# EAGLE library part SN65LVDS387 (library lvds)
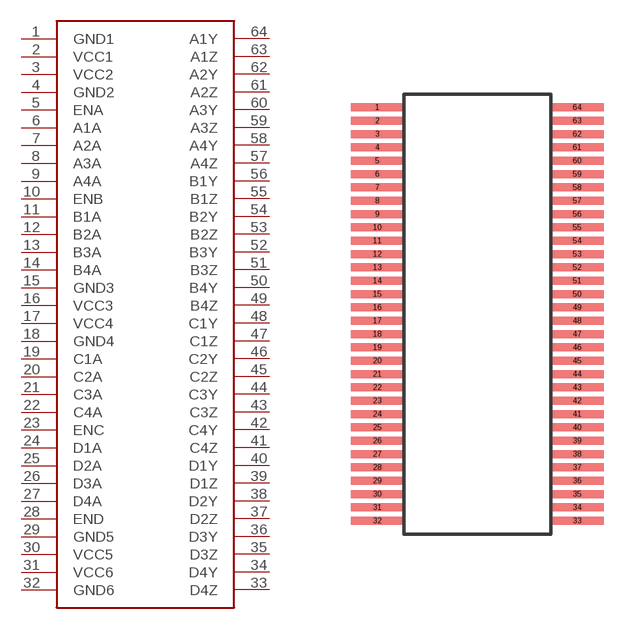
[diagram p1: symbol with the pads of DGG-64; footprint DGG-64]

Designator prefix -

## SN65LVDS387  [DGG-64]
1  GND1  pwr
2  VCC1  pwr
3  VCC2  pwr
4  GND2  pwr
5  ENA
6  A1A  in
7  A2A  in
8  A3A  in
9  A4A  in
10  ENB
11  B1A  in
12  B2A  in
13  B3A  in
14  B4A  in
15  GND3  pwr
16  VCC3  pwr
17  VCC4  pwr
18  GND4  pwr
19  C1A  in
20  C2A  in
21  C3A  in
22  C4A  in
23  ENC
24  D1A  in
25  D2A  in
26  D3A  in
27  D4A  in
28  END
29  GND5  pwr
30  VCC5  pwr
31  VCC6  pwr
32  GND6  pwr
33  D4Z  out
34  D4Y  out
35  D3Z  out
36  D3Y  out
37  D2Z  out
38  D2Y  out
39  D1Z  out
40  D1Y  out
41  C4Z  out
42  C4Y  out
43  C3Z  out
44  C3Y  out
45  C2Z  out
46  C2Y  out
47  C1Z  out
48  C1Y  out
49  B4Z  out
50  B4Y  out
51  B3Z  out
52  B3Y  out
53  B2Z  out
54  B2Y  out
55  B1Z  out
56  B1Y  out
57  A4Z  out
58  A4Y  out
59  A3Z  out
60  A3Y  out
61  A2Z  out
62  A2Y  out
63  A1Z  out
64  A1Y  out

## Footprint DGG-64 (pad centres in mm)
smd 2 x 0.3: 1 1,0; 2 1,-0.5; 3 1,-1; 4 1,-1.5; 5 1,-2; 6 1,-2.5; 7 1,-3; 8 1,-3.5; 9 1,-4; 10 1,-4.5; 11 1,-5; 12 1,-5.5; 13 1,-6; 14 1,-6.5; 15 1,-7; 16 1,-7.5; 17 1,-8; 18 1,-8.5; 19 1,-9; 20 1,-9.5; 21 1,-10; 22 1,-10.5; 23 1,-11; 24 1,-11.5; 25 1,-12; 26 1,-12.5; 27 1,-13; 28 1,-13.5; 29 1,-14; 30 1,-14.5; 31 1,-15; 32 1,-15.5; 33 8.5,-15.5; 34 8.5,-15; 35 8.5,-14.5; 36 8.5,-14; 37 8.5,-13.5; 38 8.5,-13; 39 8.5,-12.5; 40 8.5,-12; 41 8.5,-11.5; 42 8.5,-11; 43 8.5,-10.5; 44 8.5,-10; 45 8.5,-9.5; 46 8.5,-9; 47 8.5,-8.5; 48 8.5,-8; 49 8.5,-7.5; 50 8.5,-7; 51 8.5,-6.5; 52 8.5,-6; 53 8.5,-5.5; 54 8.5,-5; 55 8.5,-4.5; 56 8.5,-4; 57 8.5,-3.5; 58 8.5,-3; 59 8.5,-2.5; 60 8.5,-2; 61 8.5,-1.5; 62 8.5,-1; 63 8.5,-0.5; 64 8.5,0